# Altium footprint library RoketAnaSistemPCBKütüphane.PcbLib: 41 footprints (part 2 of 3)
Each footprint in its own frame and in the unit in brackets; x right, y up, seen from the top. Pads: shape width x height; smd on the part's side, far side on the other; paste and mask are expansions set on the pad; w line width, h text height; cw(c..) or ccw(c..) is an arc to the next point about the centre after c.
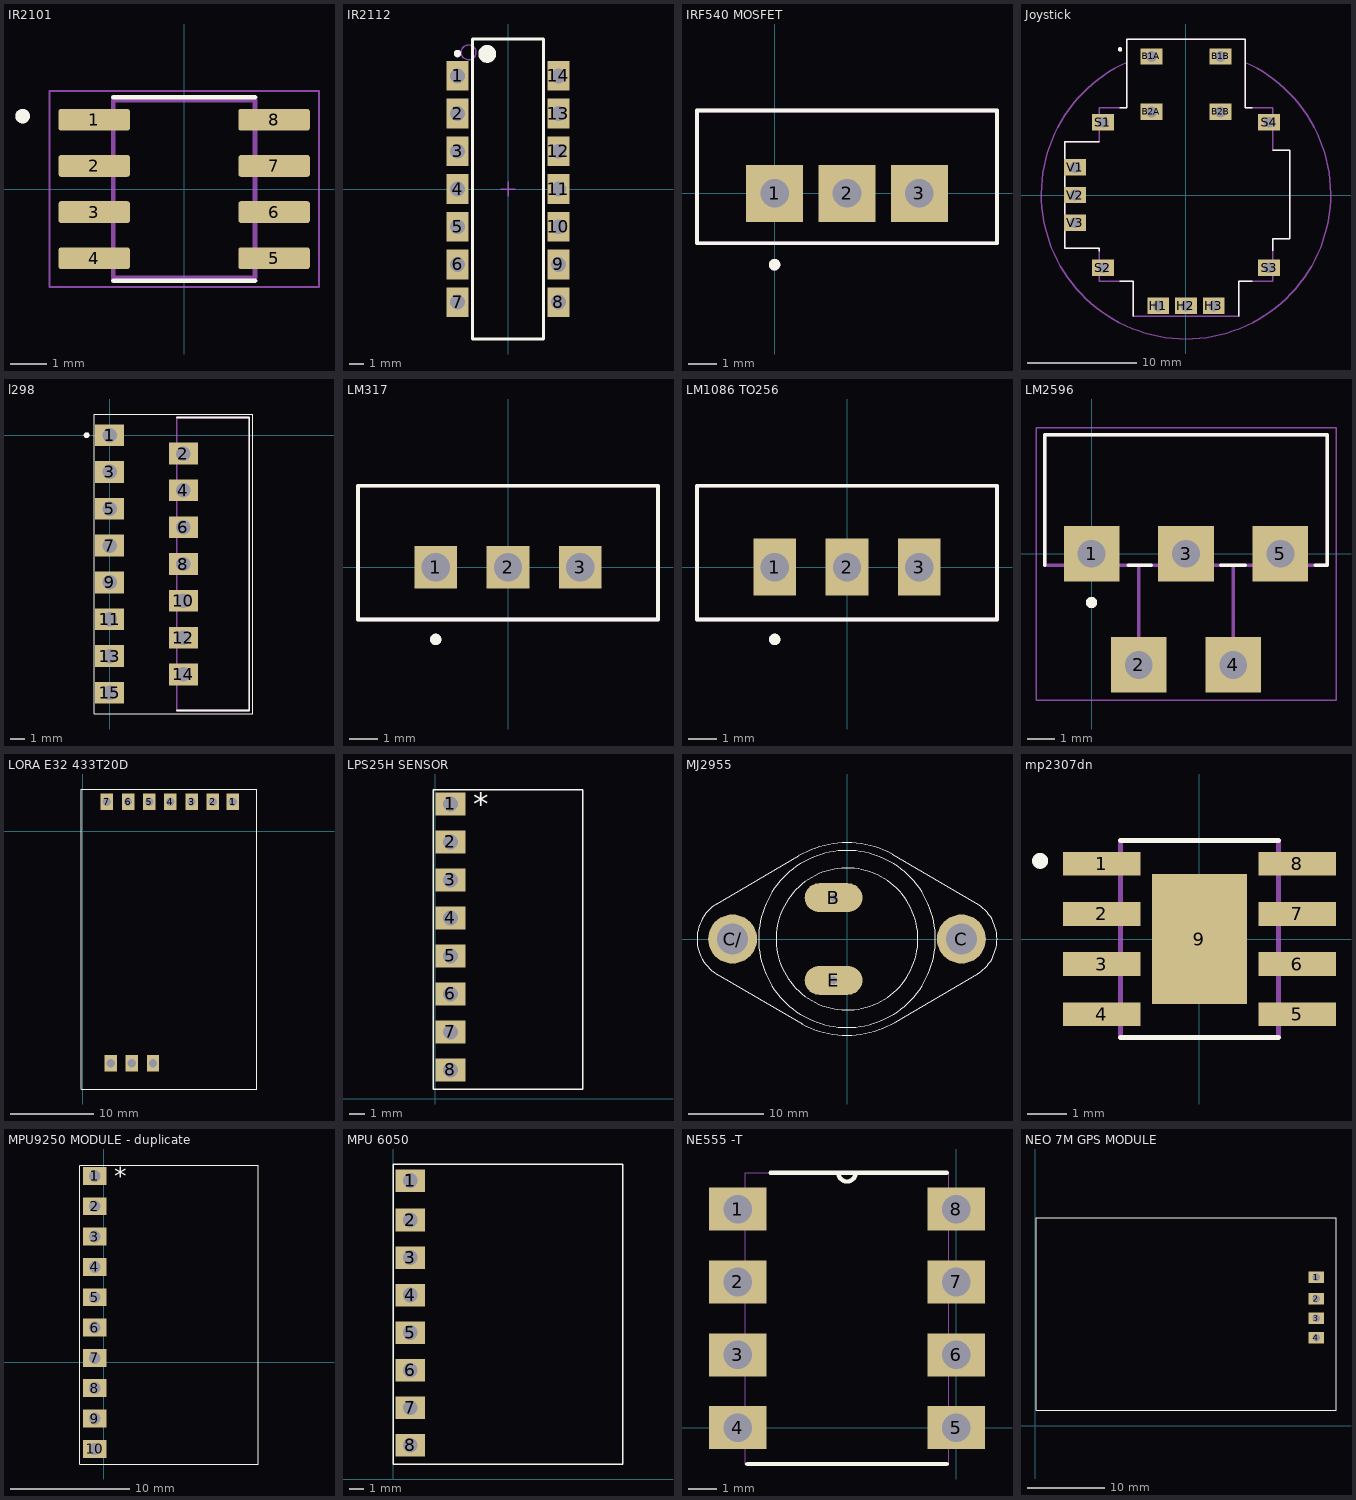
[diagram p1: the footprints below, top view; thin cyan lines are the x and y axes]

## IR2101 [mm] "SOIC-8 FET DRIVER"
pads (8):
  rrect25% 1.97x0.6 smd: 1(-2.475,1.905) 2(-2.475,0.635) 3(-2.475,-0.635) 4(-2.475,-1.905) 5(2.475,-1.905) 6(2.475,-0.635) 7(2.475,0.635) 8(2.475,1.905)
Top Overlay:
  circle w0.2: c-4.445,2.005 r0.1
  lines w0.127: -1.95,-2.525 1.95,-2.525 ; -1.95,2.525 1.95,2.525
Mechanical 13:
  circle w0.2: c-4.445,2.005 r0.1
  lines w0.127: -1.95,-2.45 -1.95,2.45 1.95,2.45 1.95,-2.45 -1.95,-2.45
Mechanical 15:
  lines w0.05: -3.71,-2.7 -3.71,2.7 3.71,2.7 3.71,-2.7 -3.71,-2.7

## IR2112 [mm] "DIP14 BOOSTRAP DRIVER"
height 5.34
pads (14):
  rect 1.5x2 hole 1 paste+0 mask+0.09: 1(-3.4,7.62) 2(-3.4,5.08) 3(-3.4,2.54) 4(-3.4,0) 5(-3.4,-2.54) 6(-3.4,-5.08) 7(-3.4,-7.62) 8(3.4,-7.62) 9(3.4,-5.08) 10(3.4,-2.54) 11(3.4,0) 12(3.4,2.54) 13(3.4,5.08) 14(3.4,7.62)
Top Overlay:
  circle w0.25: c-3.4,9.12 r0.125
  circle w0.6: c-1.4,9.1 r0.3
  lines w0.2: -2.4,-10.1 -2.4,10.1 2.4,10.1 2.4,-10.1 -2.4,-10.1
Mechanical 13:
  circle w0.1: c-2.655,9.2 r0.5
Mechanical 15:
  lines w0.1: -0.5,0 0.5,0 ; 0,-0.5 0,0.5

## IRF540 MOSFET [mm] "TO254 N CHANNEL MOSFET"
pads (3):
  rect 2x2 hole 1: 1(0,0) 2(2.54,0) 3(5.08,0)
Top Overlay:
  circle w0.2: c0,-2.5 r0.1
  lines w0.127: -2.72,-1.743 7.8,-1.743 7.8,2.907 -2.72,2.907 -2.72,-1.743
Mechanical 13:
  circle w0.2: c0,-2.5 r0.1
  lines w0.127: -2.72,-1.743 -2.72,2.907 7.8,2.907 7.8,-1.743 -2.72,-1.743

## Joystick [mm]
pads (14):
  rect 2x1.5 hole 1: B1A(-3.175,12.7) B1B(3.175,12.7) B2A(-3.175,7.62) B2B(3.175,7.62) H1(-2.54,-10.16) H2(0,-10.16) H3(2.54,-10.16) S1(-7.62,6.667) S2(-7.62,-6.667) S3(7.62,-6.667) S4(7.62,6.667) V1(-10.16,2.54) V2(-10.16,0) V3(-10.16,-2.54)
Top Overlay:
  circle w0.2: c-6.05,13.35 r0.1
  lines w0.127: -7.95,-5.17 -7.95,-4.9 -11.1,-4.9 -11.1,4.9 -7.95,4.9 ; -6.07,-7.9 -4.85,-7.9 -4.85,-11.1 ; -6.07,8 -5.45,8 -5.45,14.3 5.45,14.3 5.45,8 6.08,8 ; 4.85,-11.1 4.85,-7.9 6.08,-7.9 ; 7.95,-5.12 7.95,-4 9.5,-4 9.5,4.1 7.95,4.1
Mechanical 13:
  circle w0.2: c-6.05,13.35 r0.1
  lines w0.127: -5.393,12.175 ccw(c0,0.062) 5.393,12.175 ; -11.1,-4.9 -11.1,4.9 -7.95,4.9 -7.95,8 -5.45,8 -5.45,14.3 5.45,14.3 5.45,8 7.95,8 7.95,4.1 9.5,4.1 9.5,-4 7.95,-4 7.95,-7.9 4.85,-7.9 4.85,-11.1 -4.85,-11.1 -4.85,-7.9 -7.95,-7.9 -7.95,-4.9 -11.1,-4.9

## l298 [mm] "motor driver"
pads (15):
  rect 2x1.5 hole 1: 1(0,0) 2(5.08,-1.27) 3(0,-2.54) 4(5.08,-3.81) 5(0,-5.08) 6(5.08,-6.35) 7(0,-7.62) 8(5.08,-8.89) 9(0,-10.16) 10(5.08,-11.43) 11(0,-12.7) 12(5.08,-13.97) 13(0,-15.24) 14(5.08,-16.51) 15(0,-17.78)
Top Overlay:
  circle w0.2: c-1.59,0 r0.1
  lines w0.05: -1.06,-19.24 -1.06,1.46 9.88,1.46 9.88,-19.24 -1.06,-19.24
  lines w0.127: 4.63,-18.99 9.63,-18.99 9.63,1.21 4.63,1.21
Mechanical 13:
  circle w0.2: c-1.59,0 r0.1
  lines w0.127: 4.63,-18.99 4.63,1.21 9.63,1.21 9.63,-18.99 4.63,-18.99

## LM317 [mm] "1.5A ADJ LINEAR REGULATOR"
pads (3):
  rect 1.5x1.5 hole 1: 1(-2.54,0) 2(0,0) 3(2.54,0)
Top Overlay:
  circle w0.2: c-2.54,-2.54 r0.1
  lines w0.127: -5.27,-1.84 -5.27,2.86 5.27,2.86 5.27,-1.84 -5.27,-1.84
Mechanical 13:
  circle w0.2: c-2.54,-2.54 r0.1
  lines w0.127: -5.27,-1.84 -5.27,2.86 5.27,2.86 5.27,-1.84 -5.27,-1.84

## LM1086 TO256 [mm] "3V3 1.5A LINEAR REGULATOR"
pads (3):
  rect 1.5x2 hole 1: 1(-2.54,0) 2(0,0) 3(2.54,0)
Top Overlay:
  circle w0.2: c-2.54,-2.54 r0.1
  lines w0.127: -5.27,-1.84 5.27,-1.84 5.27,2.86 -5.27,2.86 -5.27,-1.84
Mechanical 13:
  lines w0.127: -5.27,-1.84 5.27,-1.84 5.27,2.86 -5.27,2.86 -5.27,-1.84
  lines w0.2: -2.495,-2.451 ccw(c-2.54,-2.54) -2.44,-2.54

## LM2596 [mm] "TO-220"
pads (5):
  rect 2x2 hole 1: 1(0,0) 2(1.7,-4) 3(3.4,0) 4(5.1,-4) 5(6.8,0)
Top Overlay:
  circle w0.2: c0,-1.755 r0.1
  lines w0.127: -1.68,-0.42 -1.68,4.28 8.48,4.28 8.48,-0.42 8.06,-0.42 ; 1.329,-0.42 2.14,-0.42 ; 4.66,-0.42 5.54,-0.42
Mechanical 13:
  circle w0.2: c0,-1.755 r0.1
  lines w0.127: 1.7,-2.99 1.7,-0.42 ; 5.1,-2.99 5.1,-0.42 ; 1.7,-0.42 5.1,-0.42 ; 1.7,-0.42 -1.68,-0.42 -1.68,4.28 8.48,4.28 8.48,-0.42 5.1,-0.42
Mechanical 15:
  lines w0.05: -2,-5.268 -2,4.533 8.8,4.533 8.8,-5.268 -2,-5.268

## LORA E32 433T20D [mm] "LORA E32 433T20D RF MODULE"
pads (11):
  rect 1.5x2 hole 1: 1(18.034,3.556) 1(18.034,3.556) 2(15.621,3.556) 3(13.081,3.556) 4(10.541,3.556) 5(8.001,3.556) 6(5.461,3.556) 7(2.921,3.556) ""(3.373,-27.813) ""(5.913,-27.813) ""(8.453,-27.813)
Top Overlay:
  lines w0.1: -0.127,-30.92 -0.127,5.08 20.873,5.08 20.873,-30.92 -0.127,-30.92

## LPS25H SENSOR [mm] "SENSOR MODULE"
pads (9):
  rect 2x1.524 hole 1: 1(1.016,19.685) 1(1.016,19.685) 2(1.016,17.145) 3(1.016,14.605) 4(1.016,12.065) 5(1.016,9.525) 6(1.016,6.985) 7(1.016,4.445) 8(1.016,1.905)
Top Overlay:
  lines w0.1: -0.127,0.635 9.873,0.635 9.873,20.635 -0.127,20.635 -0.127,0.635
  text "*" at 2.54,18.923 h1.52

## MJ2955 [mil] "TO3"
pads (4):
  oval 300x150 hole 39.37: B(-70,215) E(-70,-215)
  round 255 hole 162: C(595,0) C/(-595,0)
Top Overlay:
  circle w2: c0,0 r460
  circle w6: c0,0 r369
  lines w6: -680,180 -250,433 cw(c0,0) 0,500 cw(c0,0) 234.74,441.47 ; -679,-181 -234,-442 ; -676.7,-182.58 cw(c-567,0) -780,0 cw(c-567,0) -673.5,184.46 ; -234.74,-441.47 ccw(c0,0) 0,-500 ccw(c0,0) 250,-433.01 ; 235,441 684,178 ; 251,-433 684,-178 ; 683.01,-178.64 ccw(c567,0) 780,0 ccw(c567,0) 683.01,178.64
Mechanical 13:
  circle w6: c-595,0 r85
  circle w6: c595,0 r85
  text "C" at 500.08,-145.02 h50.01
  text "B" at -150.24,180.29 h50.08
  text "E" at -150.11,-245.18 h50.04

## mp2307dn [mm] "Buck Converter"
pads (9):
  rect 1.97x0.6 smd: 1(-2.475,1.905) 2(-2.475,0.635) 3(-2.475,-0.635) 4(-2.475,-1.905) 5(2.475,-1.905) 6(2.475,-0.635) 7(2.475,0.635) 8(2.475,1.905)
  rect 2.41x3.3 smd paste-3: 9(0,0)
Top Overlay:
  circle w0.2: c-4.04,1.98 r0.1
  lines w0.127: -2,-2.5 2,-2.5 ; -2,2.5 2,2.5
Top Paste:
  region: 0.762,-1.042 -0.763,-1.042 -0.763,1.04 0.762,1.04
Mechanical 13:
  circle w0.2: c-4.044,1.977 r0.1
  lines w0.127: -2,-2.5 2,-2.5 2,2.5 -2,2.5 -2,-2.5

## MPU9250 MODULE - duplicate [mm] "9 DOF IMU SENSOR MODULE"
pads (11):
  rect 2x1.5 hole 1 paste+0.1: 1(-0.762,15.621) 1(-0.762,15.621) 2(-0.762,13.081) 3(-0.762,10.541) 4(-0.762,8.001) 5(-0.762,5.461) 6(-0.762,2.921) 7(-0.762,0.381) 8(-0.762,-2.159) 9(-0.762,-4.699) 10(-0.762,-7.239)
Top Overlay:
  lines w0.1: -2.039,16.51 12.954,16.51 12.954,-8.509 -2.032,-8.509 -2.032,16.491
  text "*" at 0.889,14.859 h1.52

## MPU 6050 [mil] "GYRO SENSOR MODULE"
pads (9):
  rect 78.74x60 hole 39.37: 1(45,795) 1(45,795) 2(45,690) 3(45,590) 4(45,490) 5(45,390) 6(45,290) 7(45,190) 8(45,90)
Top Overlay:
  lines w3.94: 0,40 610.24,40 610.24,839.21 0,839.21 0,40

## NE555 -T [mm]
pads (8):
  rect 2x1.5 hole 1: 1(-7.62,7.62) 2(-7.62,5.08) 3(-7.62,2.54) 4(-7.62,0) 5(0,0) 6(0,2.54) 7(0,5.08) 8(0,7.62)
Top Overlay:
  lines w0.152: -7.29,-1.27 -0.33,-1.27 ; -6.477,8.89 -4.115,8.89 ; -0.33,8.89 -3.505,8.89 ; -4.115,8.89 ccw(c-3.81,8.89) -3.505,8.89 ; -4.115,8.89 -3.505,8.89
Mechanical 13:
  lines w0: -4.115,8.89 ccw(c-3.81,8.89) -3.505,8.89 ; -4.115,8.89 -7.366,8.89 -7.366,-1.27 -0.254,-1.27 -0.254,8.89 -3.505,8.89 ; -4.115,8.89 -3.505,8.89 ; -8.179,-0.559 -7.366,-0.559 -7.366,0.559 -8.179,0.559 -8.179,-0.559 ; -8.179,1.981 -7.366,1.981 -7.366,3.099 -8.179,3.099 -8.179,1.981 ; -8.179,4.521 -7.366,4.521 -7.366,5.639 -8.179,5.639 -8.179,4.521 ; -8.179,7.061 -7.366,7.061 -7.366,8.179 -8.179,8.179 -8.179,7.061 ; -0.254,-0.559 0.559,-0.559 0.559,0.559 -0.254,0.559 -0.254,-0.559 ; -0.254,1.981 0.559,1.981 0.559,3.099 -0.254,3.099 -0.254,1.981 ; -0.254,4.521 0.559,4.521 0.559,5.639 -0.254,5.639 -0.254,4.521 ; -0.254,7.061 0.559,7.061 0.559,8.179 -0.254,8.179 -0.254,7.061

## NEO 7M GPS MODULE [mm] "GPS MODULE"
pads (5):
  rect 2x1.5 hole 1: 1(36.576,19.304) 1(36.576,19.304) 2(36.576,16.51) 3(36.576,13.97) 4(36.576,11.43)
Top Overlay:
  lines w0.1: 0.127,2.032 0.127,27.032 39.127,27.032 39.127,2.032 0.127,2.032